# Altium integrated library DM-OLED096-636.IntLib: 1 symbol
Pins are listed as number, name and electrical type; pins without a type are passive.

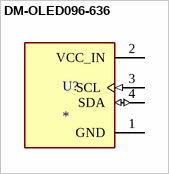
[diagram p0: symbol DM-OLED096-636]

## DM-OLED096-636
designator U?
0.96â€ 128 X 64 MONOCHROME GRAPHIC OLED DISPLAY MODULE - I2C; MP: DM-OLED096-636; SnapEDA_Link: https://www.snapeda.com/parts/DM-OLED096-636/Display+Module/view-part/?ref=snap; Package: Package; Value: *; MF: Display Module; Check_prices: https://www.snapeda.com/parts/DM-OLED096-636/Display+Module/view-part/?ref=eda
footprint MODULE_DM-OLED096-636
pins: 1 GND (power), 2 VCC_IN (power), 3 SCL (in), 4 SDA (io)